# Altium schematic symbol library Schlib1.SchLib: 47 symbols
Pins are listed as number, name and electrical type; pins without a type are passive.

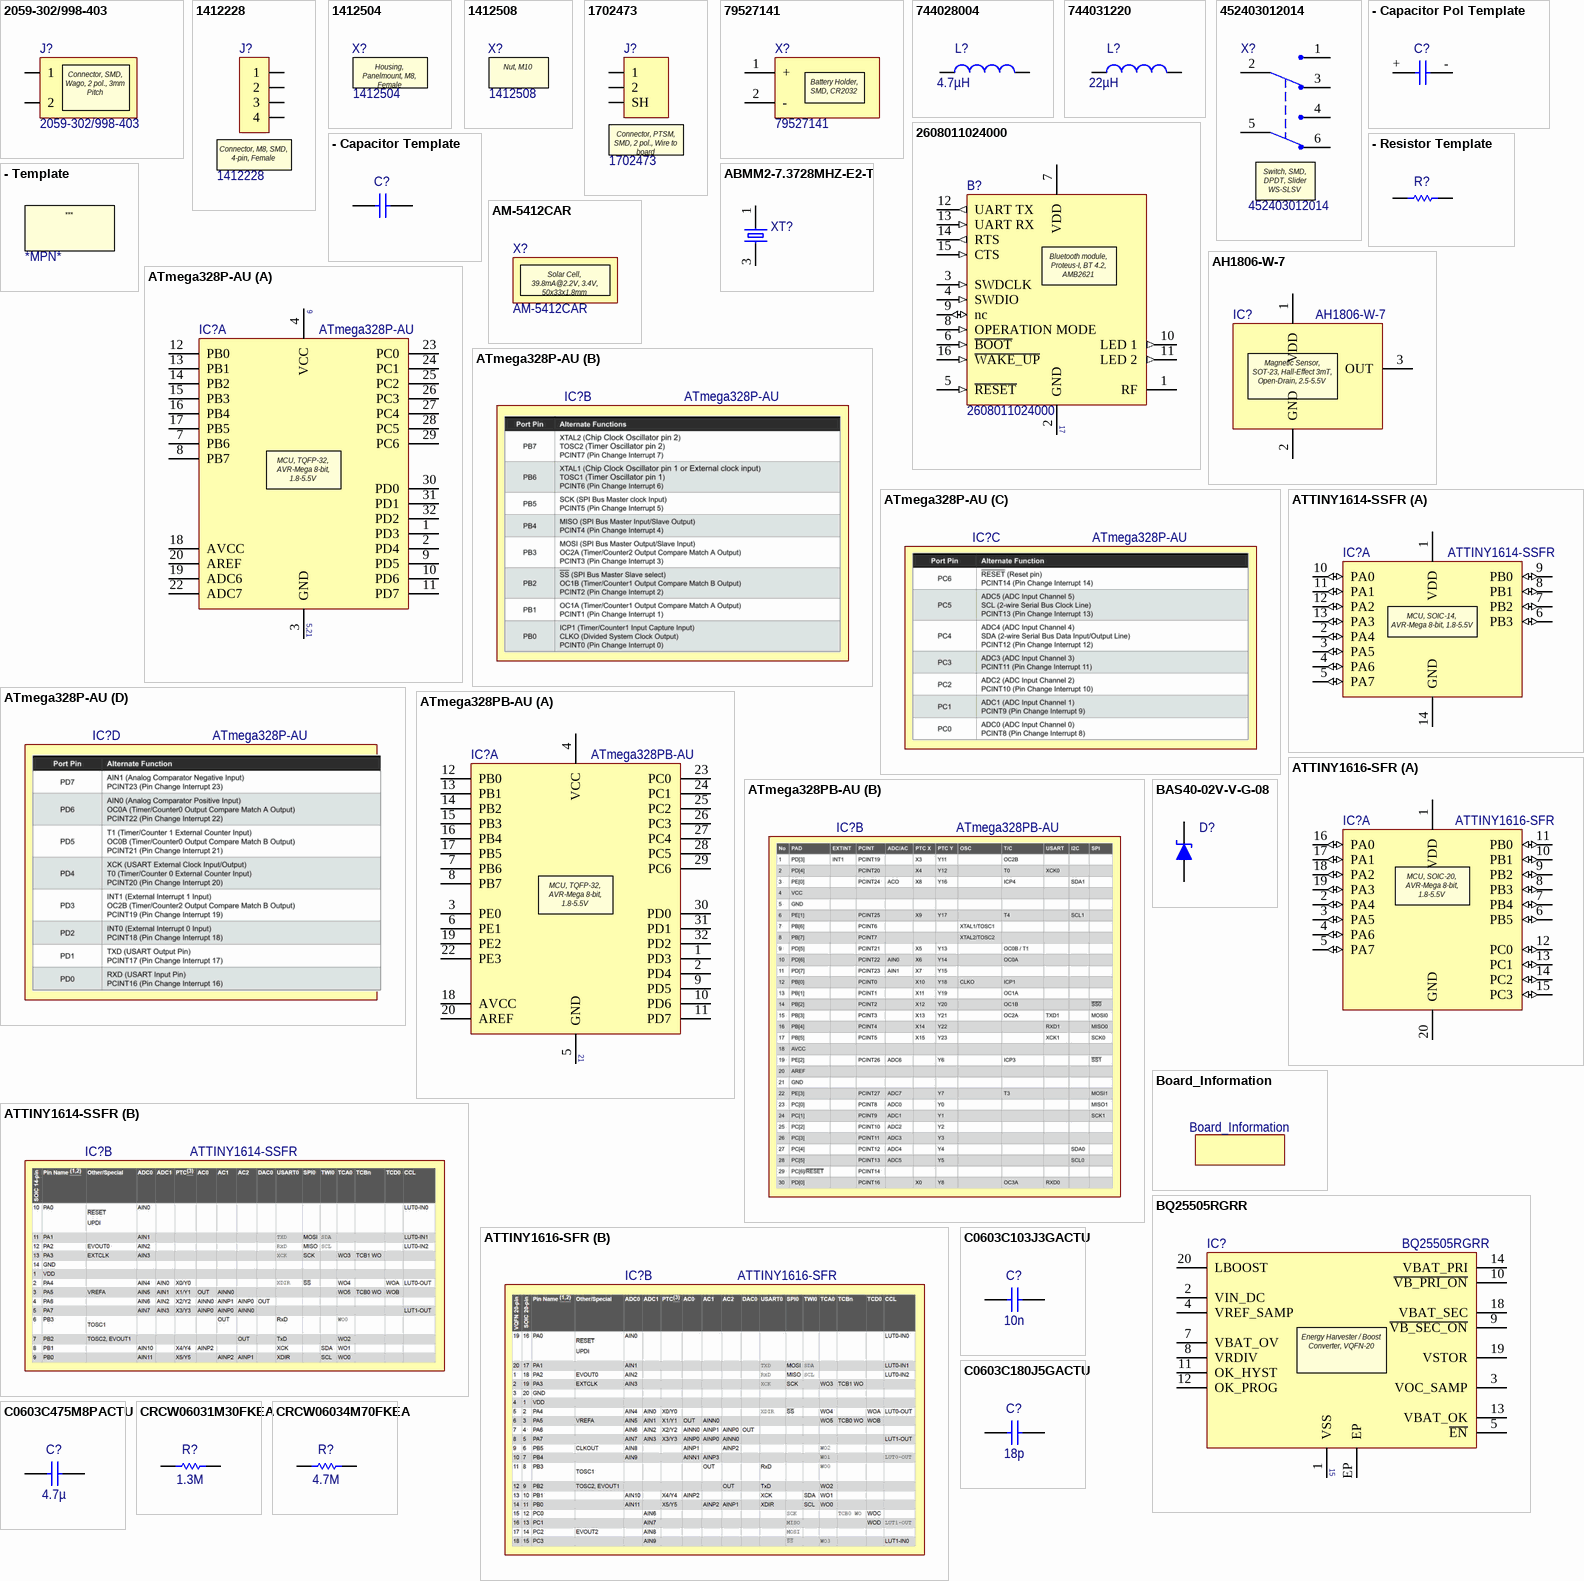
[diagram p0: symbols 2059-302/998-403 to CRCW06034M70FKEA]

## 2059-302/998-403
designator J?
Connector, SMD, Wago, 2 pol., 3mm Pitch; ComponentLink1URL: P:/Datenblatt_2059-302_998-403_.pdf; ComponentLink1Description: Datasheet; OC_FEPA: *; Supplier Part Number 1: -; Supplier 1: Digi-Key; Manufacturer: Wago; Supplier 2: Farnell; Supplier Part Number 2: 2494399; Supplier 3: Mouser; Supplier Part Number 3: -; Supplier 4: Conrad; Supplier Part Number 4: 1208172; MPN: 2059-302/998-403
footprint 2059-3x2
pins: 1, 2

## 1412228
designator J?
Connector, M8, SMD, 4-pin, Female; Manufacturer: Phoenix Contact; ComponentLink1URL: P:/1412228.pdf; ComponentLink1Description: Datasheet; OC_FEPA: *; ComponentLink2Description: Part Series Datasheet; ComponentLink2URL: P:/52003587_EN_US_PLUSCON_circular_M5_M8_M12_LoRes.pdf; Supplier 1: Digi-Key; Supplier Part Number 1: 1412228-ND; Supplier 2: Farnell; Supplier Part Number 2: -; Supplier 3: Mouser; Supplier Part Number 3: 651-1412228; MPN: 1412228
footprint 1412228
pins: 1, 2, 3, 4

## 1412504
designator X?
Housing, Panelmount, M8, Female; Manufacturer: Phoenix Contact; ComponentLink1URL: P:/1412504.pdf; ComponentLink1Description: Datasheet; OC_FEPA: 1030987; Supplier 1: Digi-Key; Supplier Part Number 1: 277-10310-ND; Supplier 2: Farnell; Supplier Part Number 2: -; Supplier 3: Mouser; Supplier Part Number 3: 651-1412504; MPN: 1412504
footprint 1412504

## 1412508
designator X?  (mechanical)
Nut, M10; Manufacturer: Phoenix Contact; ComponentLink1URL: P:/1412508.pdf; ComponentLink1Description: Datasheet; OC_FEPA: 1030988; Supplier 1: Digi-Key; Supplier Part Number 1: 277-10312-ND; Supplier 2: Farnell; Supplier Part Number 2: -; Supplier 3: Mouser; Supplier Part Number 3: 651-1412508; MPN: 1412508
footprint 1412508

## 1702473
designator J?
Connector, PTSM, SMD, 2 pol., Wire to board; Manufacturer: Phoenix Contact; ComponentLink1URL: P:/1702473.pdf; ComponentLink1Description: Datasheet; OC_FEPA: *; ComponentLink3Description: Drawing; ComponentLink3URL: P:/pxc_1702473_01_PTSM-0-5-2-2-5-H-SMD-R24_FAM.pdf; Supplier 1: Digi-Key; Supplier Part Number 1: 277-2337-1-ND; Supplier 2: Farnell; Supplier Part Number 2: 1793797; Supplier 3: Mouser; Supplier Part Number 3: 651-1702473; MPN: 1702473
footprint 1702473
pins: 1, 2, SH1 SH, SH2

## 79527141
designator X?
Battery Holder, SMD, CR2032; Manufacturer: Würth Elektronik; OC_FEPA: *; ComponentLink3Description: Drawing; ComponentLink3URL: P:/79527141.pdf; Supplier 1: Digi-Key; Supplier Part Number 1: 732-12325-1-ND; Supplier 2: Farnell; Supplier Part Number 2: -; Supplier 3: Mouser; Supplier Part Number 3: 710-79527141; Supplier 4: RSComponents; Supplier Part Number 4: 1842347; MPN: 79527141
footprint 79527141
pins: 1 +, 2 -

## 744028004
designator L?  value 4.7µH  (hidden comment: 744028004)
Ind, 4.7µH, 0.7A, 2.78x2.78x1.1mm; Manufacturer: Würth Elektronik; OC_FEPA: *; ComponentLink3Description: Drawing; ComponentLink3URL: P:/744028004.pdf; MPN: 744028004; Supplier 1: Digi-Key; Supplier Part Number 1: 732-1003-1-ND; Supplier 2: Farnell; Supplier Part Number 2: 1635821; Supplier 3: Mouser; Supplier Part Number 3: 710-744028004; Supplier 4: RSComponents; Supplier Part Number 4: 6690157
footprint WE-TPC_2811
pins: 1, 2

## 744031220
designator L?  value 22µH  (hidden comment: 744031220)
Ind, 22µH, 0.51A, 3.8x3.8x1.65mm; Manufacturer: Würth Elektronik; OC_FEPA: *; ComponentLink3Description: Drawing; ComponentLink3URL: P:/744031220.pdf; MPN: 744031220; Supplier 1: Digi-Key; Supplier Part Number 1: 732-1012-1-ND; Supplier 2: Farnell; Supplier Part Number 2: 1890602; Supplier 3: Mouser; Supplier Part Number 3: 710-744031220; Supplier 4: RSComponents; Supplier Part Number 4: 617-0903
footprint WE-TCP_3816
pins: 1, 2

## 452403012014
designator X?
Switch, SMD, DPDT, Slider WS-SLSV; Manufacturer: Würth Elektronik; OC_FEPA: *; ComponentLink3Description: Drawing; ComponentLink3URL: P:/452403012014.pdf; Supplier 1: Digi-Key; Supplier Part Number 1: 732-10145-1-ND; Supplier 2: Farnell; Supplier Part Number 2: -; Supplier 3: Mouser; Supplier Part Number 3: 710-452403012014; MPN: 452403012014
footprint 452403012014
pins: 1 NO1, 2 COM1, 3 NC1, 4 NO2, 5 COM2, 6 NC2

## 2608011024000
designator B?
Bluetooth module, Proteus-I, BT 4.2, AMB2621; Manufacturer: Würth Elektronik; ComponentLink4URL: P:/ProteusI_2608011x2400x.pdf; ComponentLink4Description: Manual; OC_FEPA: *; ComponentLink3Description: Drawing; ComponentLink3URL: P:/2608011024000.pdf; Supplier 1: Digi-Key; Supplier Part Number 1: 1917-1014-1-ND; Supplier 2: Farnell; Supplier Part Number 2: 2917636; MPN: 2608011024000
footprint AMB2621
pins: 1 RF, 2 GND, 3 SWDCLK (in), 4 SWDIO (in), 5 ~{RESET} (in), 6 ~{BOOT} (in), 7 VDD, 8 OPERATION MODE (in), 9 nc (io), 10 LED 1 (out), 11 LED 2 (out), 12 UART TX (out), 13 UART RX (in), 14 RTS (out), 15 CTS (in), 16 ~{WAKE_UP} (in), 17 GND
1 alternate drawing of the same symbol
text: Bluetooth module, Proteus-I, BT 4.2, AMB2621 /

## - Capacitor Pol Template
designator C?, comment MPN  (value not drawn)
Cap,; ComponentLink1Description: Datasheet; ComponentLink2Description: Part Series Datasheet; OC_FEPA: *; MPN: *; Manufacturer: *
pins: + 1, - 2

## - Capacitor Template
designator C?, comment MPN  (value not drawn)
Cap,; ComponentLink1Description: Datasheet; ComponentLink2Description: Part Series Datasheet; OC_FEPA: *; MPN: *; Manufacturer: *
pins: 1, 2

## - Resistor Template
designator R?, comment Res  (value not drawn)
Res,; OC_FEPA: *; ComponentLink2Description: Part Series Datasheet; ComponentLink1Description: Datasheet; MPN: *; Manufacturer: *; Supplier 1: Digi-Key; Supplier 2: Farnell; Supplier 3: Mouser; Supplier Part Number 1: -; Supplier Part Number 2: -; Supplier Part Number 3: -
pins: 1, 2

## - Template
designator X?  MPN: *MPN*  (hidden comment: - Template)
ComponentLink1URL: *; ComponentLink1Description: Datasheet; OC_FEPA: *; Supplier Part Number 1: -; Supplier 1: Digi-Key; Manufacturer: *; ComponentLink2Description: Part Series Datasheet; ComponentLink2URL: *; ComponentLink3Description: Drawing; ComponentLink3URL: *; Supplier 2: Farnell; Supplier Part Number 2: -
text: ***

## ABMM2-7.3728MHZ-E2-T
designator XT?  (value not drawn)
Crystal, SMD, 7.3728MHz, 18pF; Manufacturer: Abracon; ComponentLink1URL: P:/Abracon-ABMM2-7.3728MHZ-E2-T-datasheet.pdf; ComponentLink1Description: Datasheet; OC_FEPA: *; MPN: ABMM2-7.3728MHZ-E2-T; Supplier 1: Digi-Key; Supplier Part Number 1: 535-10157-1-ND; Supplier 2: Farnell; Supplier Part Number 2: 2467857; Supplier 3: Mouser; Supplier Part Number 3: 815-ABMM2-7.3-E2-T; Supplier 4: RSComponents; Supplier Part Number 4: 1712788
footprint Crystal_6x3.6mm
pins: 1, 3

## AH1806-W-7
designator IC?
Magnetic Sensor, SOT-23, Hall-Effect 3mT, Open-Drain, 2.5-5.5V; Manufacturer: Diodes Inc.; ComponentLink1URL: https://www.diodes.com/assets/Datasheets/AH1806.pdf; ComponentLink1Description: Datasheet; OC_FEPA: *; Supplier 1: Digi-Key; Supplier Part Number 1: AH1806-W-7DICT-ND; Supplier 2: Farnell; Supplier Part Number 2: -; Supplier 3: Mouser; Supplier Part Number 3: 621-AH1806-W-7; MPN: AH1806-W-7
footprint SOT-23
pins: 1 VDD, 2 GND, 3 OUT

## AM-5412CAR
designator X?
Solar Cell, 39.8mA@2.2V, 3.4V, 50x33x1.8mm; Manufacturer: Panasonic BSG; OC_FEPA: *; ComponentLink2Description: Part Series Datasheet; ComponentLink2URL: P:/Amorphous_Br.pdf; Supplier 1: Digi-Key; Supplier Part Number 1: 869-1007-ND; Supplier 2: Farnell; Supplier Part Number 2: -; Supplier 3: Mouser; Supplier Part Number 3: 658-AM-5412CAR; MPN: AM-5412CAR
footprint AM-5412CAR

## ATmega328P-AU
designator IC?
MCU, TQFP-32, AVR-Mega 8-bit, 1.8-5.5V; Manufacturer: Microchip; ComponentLink1URL: P:/ATmega48A-PA-88A-PA-168A-PA-328-P-DS-DS40002061A.pdf; ComponentLink1Description: Datasheet; OC_FEPA: *; Supplier 1: Digi-Key; Supplier Part Number 1: ATMEGA328P-AU-ND; Supplier 2: Farnell; Supplier Part Number 2: 1715486; Supplier 3: Mouser; Supplier Part Number 3: 556-ATMEGA328P-AU; Supplier 4: RSComponents; Supplier Part Number 4: 1310271; MPN: ATmega328P-AU
footprint TQFP-32
part A pins: 1 PD3, 2 PD4, 3 GND, 4 VCC, 5 GND, 6 VCC, 7 PB6, 8 PB7, 9 PD5, 10 PD6, 11 PD7, 12 PB0, 13 PB1, 14 PB2, 15 PB3, 16 PB4, 17 PB5, 18 AVCC, 19 ADC6, 20 AREF, 21 GND, 22 ADC7, 23 PC0, 24 PC1, 25 PC2, 26 PC3, 27 PC4, 28 PC5, 29 PC6, 30 PD0, 31 PD1, 32 PD2
part A text: 5,21

## ATmega328PB-AU
designator IC?
MCU, TQFP-32, AVR-Mega 8-bit, 1.8-5.5V; Manufacturer: Microchip; ComponentLink1URL: P:/40001906C.pdf; ComponentLink1Description: Datasheet; OC_FEPA: *; Supplier 1: Digi-Key; Supplier Part Number 1: ATMEGA328PB-AU-ND; Supplier 2: Farnell; Supplier Part Number 2: 2523203; Supplier 3: Mouser; Supplier Part Number 3: 556-ATMEGA328PB-AU; Supplier 4: RSComponents; Supplier Part Number 4: 1468928; MPN: ATmega328PB-AU
footprint TQFP-32
part A pins: 1 PD3, 2 PD4, 3 PE0, 4 VCC, 5 GND, 6 PE1, 7 PB6, 8 PB7, 9 PD5, 10 PD6, 11 PD7, 12 PB0, 13 PB1, 14 PB2, 15 PB3, 16 PB4, 17 PB5, 18 AVCC, 19 PE2, 20 AREF, 21 GND, 22 PE3, 23 PC0, 24 PC1, 25 PC2, 26 PC3, 27 PC4, 28 PC5, 29 PC6, 30 PD0, 31 PD1, 32 PD2

## ATTINY1614-SSFR
designator IC?
MCU, SOIC-14, AVR-Mega 8-bit, 1.8-5.5V; Manufacturer: Microchip; ComponentLink1URL: P:/ATtiny1614-data-sheet-40001995A.pdf; ComponentLink1Description: Datasheet; OC_FEPA: *; Supplier 1: Digi-Key; Supplier Part Number 1: ATTINY1614-SSFRCT-ND; Supplier 2: Farnell; Supplier Part Number 2: 2920870; Supplier 3: Mouser; Supplier Part Number 3: 556-ATTINY1614SSFR; MPN: ATTINY1614-SSFR
part A pins: 1 VDD, 2 PA4 (io), 3 PA5 (io), 4 PA6 (io), 5 PA7 (io), 6 PB3 (io), 7 PB2 (io), 8 PB1 (io), 9 PB0 (io), 10 PA0 (io), 11 PA1 (io), 12 PA2 (io), 13 PA3 (io), 14 GND

## ATTINY1616-SFR
designator IC?
MCU, SOIC-20, AVR-Mega 8-bit, 1.8-5.5V; Manufacturer: Microchip; ComponentLink1URL: P:/ATtiny3216_ATtiny1616-data-sheet-40001997B.pdf; ComponentLink1Description: Datasheet; OC_FEPA: *; Supplier 1: Digi-Key; Supplier Part Number 1: ATTINY1616-SFRCT-ND; Supplier 2: Farnell; Supplier Part Number 2: 2920834; Supplier 3: Mouser; Supplier Part Number 3: 556-ATTINY1616SFR; Supplier 4: RSComponents; Supplier Part Number 4: 1468887; MPN: ATTINY1616-SFR
footprint WSOIC-20
part A pins: 1 VDD, 2 PA4 (io), 3 PA5 (io), 4 PA6 (io), 5 PA7 (io), 6 PB5 (io), 7 PB4 (io), 8 PB3 (io), 9 PB2 (io), 10 PB1 (io), 11 PB0 (io), 12 PC0 (io), 13 PC1 (io), 14 PC2 (io), 15 PC3 (io), 16 PA0 (io), 17 PA1 (io), 18 PA2 (io), 19 PA3 (io), 20 GND

## BAS40-02V-V-G-08
designator D?  (value not drawn)
Diode, Schottky, SOD-523; Manufacturer: Vishay; ComponentLink1URL: P:/bas4002v.pdf; ComponentLink1Description: Datasheet; OC_FEPA: *; MPN: BAS40-02V-V-G-08; Supplier 1: Digi-Key; Supplier Part Number 1: BAS40-02V-V-G-08GICT-ND; Supplier 2: Farnell; Supplier Part Number 2: 2689970; Supplier 3: Mouser; Supplier Part Number 3: 78-BAS40-02V-V-G-08
footprint SOD-523
pins: A, K

## Board_Information
designator Board_Information  (value not drawn)  (no BOM)
Board Information
footprint Board_Information

## BQ25505RGRR
designator IC?
Energy Harvester / Boost Converter, VQFN-20; Manufacturer: Texas Instruments; ComponentLink1URL: P:/bq25505.pdf; ComponentLink1Description: Datasheet; OC_FEPA: *; Supplier 1: Digi-Key; Supplier Part Number 1: 296-37078-1-ND; Supplier 2: Farnell; Supplier Part Number 2: -; Supplier 3: Mouser; Supplier Part Number 3: 595-BQ25505RGRR; MPN: BQ25505RGRR
footprint VQFN-20-EP_3.5x3.5 (VQFN, 20 pins + exposed pad, 3.5mm x 3.5mm body, 0.5mm pitch)
pins: 1 VSS, 2 VIN_DC, 3 VOC_SAMP, 4 VREF_SAMP, 5 ~{EN}, 7 VBAT_OV, 8 VRDIV, 9 ~{VB_SEC_ON}, 10 ~{VB_PRI_ON}, 11 OK_HYST, 12 OK_PROG, 13 VBAT_OK, 14 VBAT_PRI, 15 VSS, 18 VBAT_SEC, 19 VSTOR, 20 LBOOST, EP

## C0603C103J3GACTU
designator C?  value 10n  (hidden comment: C0603C103J3GACTU)
Cap, 10n, 0603, C0G, 25V; Manufacturer: Kemet; Rated Voltage: 25V; Dielectric: C0G; ComponentLink2URL: P:/KEM_C1003_C0G_SMD.pdf; ComponentLink2Description: Part Series Datasheet; OC_FEPA: *; MPN: C0603C103J3GACTU; Supplier 1: Digi-Key; Supplier Part Number 1: 399-7838-1-ND; Supplier 2: Farnell; Supplier Part Number 2: 1457729; Supplier 3: Mouser; Supplier Part Number 3: 80-C0603C103J3G
footprint C0603
pins: 1, 2

## C0603C180J5GACTU
designator C?  value 18p  (hidden comment: C0603C180J5GACTU)
Cap, 18p, 0603, C0G, 50V; Manufacturer: Kemet; Rated Voltage: 50V; Dielectric: C0G; ComponentLink2URL: P:/KEM_C1003_C0G_SMD.pdf; ComponentLink2Description: Part Series Datasheet; OC_FEPA: *; MPN: C0603C180J5GACTU; Supplier 1: Digi-Key; Supplier Part Number 1: 399-1052-1-ND; Supplier 2: Farnell; Supplier Part Number 2: 1414620; Supplier 3: Mouser; Supplier Part Number 3: 80-C0603C180J5G
footprint C0603
pins: 1, 2

## C0603C475M8PACTU
designator C?  value 4.7µ  (hidden comment: C0603C475M8PACTU)
Cap, 4.7µ, 0603, X5R, 10V; Manufacturer: Kemet; Rated Voltage: 10V; Dielectric: X5R; ComponentLink2URL: P:/KEM_C1006_X5R_SMD.pdf; ComponentLink2Description: Part Series Datasheet; OC_FEPA: *; MPN: C0603C475M8PACTU; Supplier 1: Digi-Key; Supplier Part Number 1: 399-9100-1-ND; Supplier 2: Farnell; Supplier Part Number 2: 2112834; Supplier 3: Mouser; Supplier Part Number 3: 80-C0603C475M8P
footprint C0603
pins: 1, 2

## CRCW06031M30FKEA
designator R?  value 1.3M  (hidden comment: CRCW06031M30FKEA)
Res, 1.3M, 0603, 1%, 75V, 100mW; Manufacturer: Vishay Dale; Temperature Coefficient: 100ppm; Rated Voltage: 75V; Tolerance: 1%; Type: Thick Film; Rated Power: 100mW; OC_FEPA: *; ComponentLink2URL: P:/dcrcwe3.pdf; ComponentLink2Description: Part Series Datasheet; MPN: CRCW06031M30FKEA; Supplier 1: Digi-Key; Supplier Part Number 1: 541-1.30MHCT-ND; Supplier 2: Farnell; Supplier Part Number 2: 2138620; Supplier 3: Mouser; Supplier Part Number 3: 71-CRCW06031M30FKEA
footprint R0603
pins: 1, 2

## CRCW06034M70FKEA
designator R?  value 4.7M  (hidden comment: CRCW06034M70FKEA)
Res, 4.7M, 0603, 1%, 75V, 100mW; Manufacturer: Vishay Dale; Temperature Coefficient: 100ppm; Rated Voltage: 75V; Tolerance: 1%; Type: Thick Film; Rated Power: 100mW; OC_FEPA: *; ComponentLink2URL: P:/dcrcwe3.pdf; ComponentLink2Description: Part Series Datasheet; MPN: CRCW06034M70FKEA; Supplier 1: Digi-Key; Supplier Part Number 1: 541-4.70MHCT-ND; Supplier 2: Farnell; Supplier Part Number 2: 2138688; Supplier 3: Mouser; Supplier Part Number 3: 71-CRCW0603-4.7M-E3
footprint R0603
pins: 1, 2

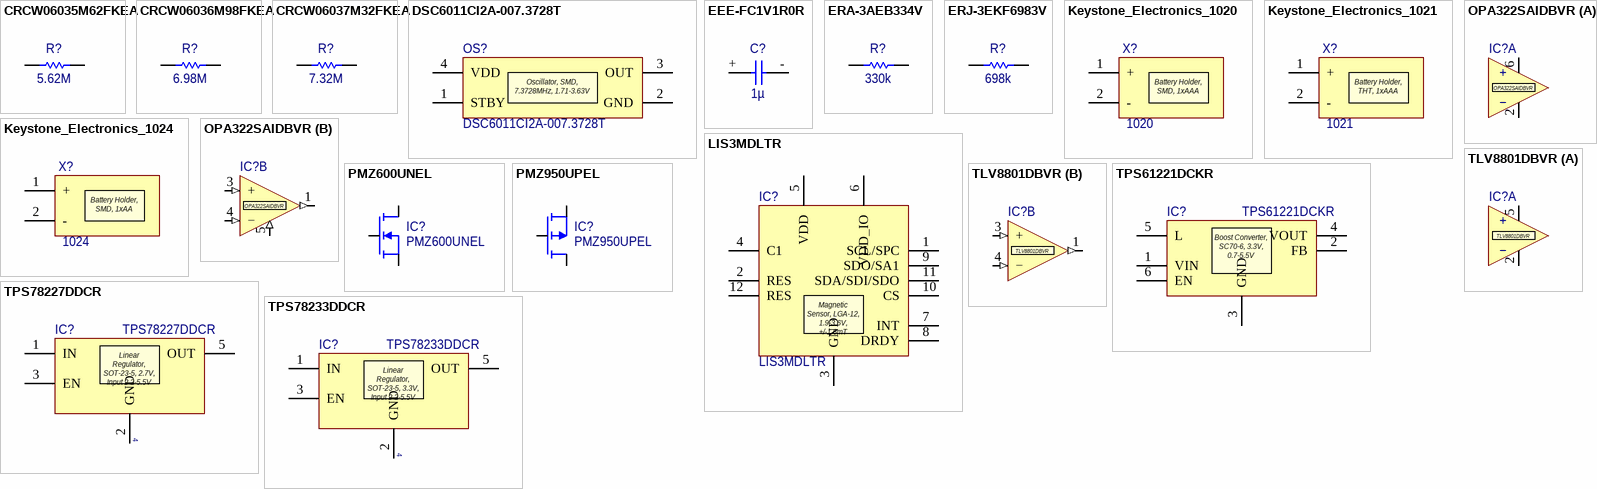
[diagram p1: symbols CRCW06035M62FKEA to TPS78233DDCR]

## CRCW06035M62FKEA
designator R?  value 5.62M  (hidden comment: CRCW06035M62FKEA)
Res, 5.62M, 0603, 1%, 75V, 100mW; Manufacturer: Vishay Dale; Temperature Coefficient: 100ppm; Rated Voltage: 75V; Tolerance: 1%; Type: Thick Film; Rated Power: 100mW; OC_FEPA: *; ComponentLink2URL: P:/dcrcwe3.pdf; ComponentLink2Description: Part Series Datasheet; MPN: CRCW06035M62FKEA; Supplier 1: Digi-Key; Supplier Part Number 1: 541-5.62MHCT-ND; Supplier 2: Farnell; Supplier Part Number 2: 2138698; Supplier 3: Mouser; Supplier Part Number 3: 71-CRCW06035M62FKEA
footprint R0603
pins: 1, 2

## CRCW06036M98FKEA
designator R?  value 6.98M  (hidden comment: CRCW06036M98FKEA)
Res, 6.98M, 0603, 1%, 75V, 100mW; Manufacturer: Vishay Dale; Temperature Coefficient: 100ppm; Rated Voltage: 75V; Tolerance: 1%; Type: Thick Film; Rated Power: 100mW; OC_FEPA: *; ComponentLink2URL: P:/dcrcwe3.pdf; ComponentLink2Description: Part Series Datasheet; MPN: CRCW06036M98FKEA; Supplier 1: Digi-Key; Supplier Part Number 1: 541-6.98MHCT-ND; Supplier 2: Farnell; Supplier Part Number 2: 2138710; Supplier 3: Mouser; Supplier Part Number 3: 71-CRCW06036M98FKEA
footprint R0603
pins: 1, 2

## CRCW06037M32FKEA
designator R?  value 7.32M  (hidden comment: CRCW06037M32FKEA)
Res, 7.32M, 0603, 1%, 75V, 100mW; Manufacturer: Vishay Dale; Temperature Coefficient: 100ppm; Rated Voltage: 75V; Tolerance: 1%; Type: Thick Film; Rated Power: 100mW; OC_FEPA: *; ComponentLink2URL: P:/dcrcwe3.pdf; ComponentLink2Description: Part Series Datasheet; MPN: CRCW06037M32FKEA; Supplier 1: Digi-Key; Supplier Part Number 1: 541-7.32MHCT-ND; Supplier 2: Farnell; Supplier Part Number 2: 2138713; Supplier 3: Mouser; Supplier Part Number 3: 71-CRCW06037M32FKEA
footprint R0603
pins: 1, 2

## DSC6011CI2A-007.3728T
designator OS?
Oscillator, SMD,  7.3728MHz, 1.71-3.63V; Manufacturer: Microchip; Additional Description: Low Power consumption 1.3mA; ComponentLink1URL: P:/DSC60XX-Ultra-Small-Ultra-Low-Power-MEMS-Oscillator-DS20005625C.pdf; ComponentLink1Description: Datasheet; OC_FEPA: *; Supplier 1: Digi-Key; Supplier Part Number 1: DSC6011CI2A-007.3728TCT-ND; MPN: DSC6011CI2A-007.3728T
footprint DSC60xxCxxx
pins: 1 STBY, 2 GND, 3 OUT, 4 VDD

## EEE-FC1V1R0R
designator C?  value 1µ  (hidden comment: EEE-FC1V1R0R)
Cap, 1µ, 4x5.4mm, Aluminum Electrolyte, 35V; Manufacturer: Panasonic; Rated Voltage: 35V; Dielectric: Aluminum Electrolyte; Temperature: 105°C; ComponentLink2URL: P:/ABA0000C1172.pdf; ComponentLink2Description: Part Series Datasheet; OC_FEPA: *; MPN: EEE-FC1V1R0R; Supplier 1: Digi-Key; Supplier Part Number 1: PCE4024CT-ND; Supplier 2: Farnell; Supplier Part Number 2: 2357339; Supplier 3: Mouser; Supplier Part Number 3: 667-EEE-FC1V1R0R
footprint ELCAP_4x5.4mm
pins: + 1, - 2

## ERA-3AEB334V
designator R?  value 330k  (hidden comment: ERA-3AEB334V)
Res, 330k, 0603, 0.1%, 25ppm, 75V, 100mW; Manufacturer: Panasonic Electronic Components; Rated Voltage: 75V; Tolerance: 0.1%; Type: Thin Film; Rated Power: 100mW; OC_FEPA: *; ComponentLink2URL: P:/AOA0000C307.pdf; ComponentLink2Description: Part Series Datasheet; Temperature Coefficient: 25ppm; MPN: ERA-3AEB334V; Supplier 1: Digi-Key; Supplier Part Number 1: P330KDBCT-ND; Supplier 2: Farnell; Supplier Part Number 2: 1577639; Supplier 3: Mouser; Supplier Part Number 3: 667-ERA-3AEB334V
footprint R0603
pins: 1, 2

## ERJ-3EKF6983V
designator R?  value 698k  (hidden comment: ERJ-3EKF6983V)
Res, 698k, 0603, 1%, 75V, 100mW; Manufacturer: Panasonic Electronic Components; Temperature Coefficient: 100ppm; Rated Voltage: 75V; Tolerance: 1%; Type: Thick Film; Rated Power: 100mW; OC_FEPA: *; ComponentLink2URL: P:/AOA0000C304.pdf; ComponentLink2Description: Part Series Datasheet; MPN: ERJ-3EKF6983V; Supplier 1: Digi-Key; Supplier Part Number 1: P698KHCT-ND; Supplier 2: Farnell; Supplier Part Number 2: 2303307; Supplier 3: Mouser; Supplier Part Number 3: 667-ERJ-3EKF6983V
footprint R0603
pins: 1, 2

## Keystone_Electronics_1020
designator X?  MPN: 1020  (hidden comment: Keystone_Electronics_1020)
Battery Holder, SMD, 1xAAA; Manufacturer: Keystone Electronics; OC_FEPA: *; ComponentLink2Description: Part Series Datasheet; ComponentLink2URL: P:/M65p23.pdf; ComponentLink3Description: Drawing; ComponentLink3URL: P:/1020.PDF; Supplier 1: Digi-Key; Supplier Part Number 1: 36-1020-ND; Supplier 2: Farnell; Supplier Part Number 2: 1888633; Supplier 3: Mouser; Supplier Part Number 3: 534-1020; Supplier 4: Conrad; Supplier Part Number 4: 1555533
footprint Keystone_Electronics_1020
pins: 1 +, 2 -

## Keystone_Electronics_1021
designator X?  MPN: 1021  (hidden comment: Keystone_Electronics_1021)
Battery Holder, THT, 1xAAA; Manufacturer: Keystone Electronics; OC_FEPA: *; ComponentLink2Description: Part Series Datasheet; ComponentLink2URL: P:/M65p22.pdf; ComponentLink3Description: Drawing; ComponentLink3URL: P:/1021.PDF; Supplier 1: Digi-Key; Supplier Part Number 1: 36-1021-ND; Supplier 2: Farnell; Supplier Part Number 2: -; Supplier 3: Mouser; Supplier Part Number 3: 534-1021; Supplier 4: Conrad; Supplier Part Number 4: 1555480
footprint Keystone_Electronics_1021
pins: 1 +, 2 -

## Keystone_Electronics_1024
designator X?  MPN: 1024  (hidden comment: Keystone_Electronics_1024)
Battery Holder, SMD, 1xAA; Manufacturer: Keystone Electronics; OC_FEPA: *; ComponentLink2Description: Part Series Datasheet; ComponentLink2URL: P:/M65p23.pdf; ComponentLink3Description: Drawing; ComponentLink3URL: P:/1024.PDF; Supplier 1: Digi-Key; Supplier Part Number 1: 36-1024-ND; Supplier 2: Farnell; Supplier Part Number 2: 1888398; Supplier 3: Mouser; Supplier Part Number 3: 534-1024; Supplier 4: Conrad; Supplier Part Number 4: 1555514
footprint Keystone_Electronics_1024
pins: 1 +, 2 -

## LIS3MDLTR
designator IC?
Magnetic Sensor, LGA-12, 1.9-3.6V, +/-1.6mT; Manufacturer: ST Microelectronics; ComponentLink1URL: P:/en.DM00075867.pdf; ComponentLink1Description: Datasheet; OC_FEPA: *; Supplier 1: Digi-Key; Supplier Part Number 1: 497-13892-1-ND; Supplier 2: Farnell; Supplier Part Number 2: 2433083; Supplier 3: Mouser; Supplier Part Number 3: 511-LIS3MDLTR; Supplier 4: RSComponents; Supplier Part Number 4: 9172725; MPN: LIS3MDLTR
footprint LGA-12
pins: 1 SCL/SPC, 2 RES, 3 GND, 4 C1, 5 VDD, 6 VDD_IO, 7 INT, 8 DRDY, 9 SDO/SA1, 10 CS, 11 SDA/SDI/SDO, 12 RES

## OPA322SAIDBVR
designator IC?  (value not drawn)
Op-Amp, SOT-32, 1.7-5.5V, Rail-to-rail, Nanopower; Manufacturer: Texas Instruments; ComponentLink1URL: P:/opa322.pdf; ComponentLink1Description: Datasheet; OC_FEPA: *; MPN: OPA322SAIDBVR; Supplier Part Number 2: -; Supplier 2: Farnell; Supplier 1: Digi-Key; Supplier Part Number 1: 296-40465-1-ND; Supplier 3: Mouser; Supplier Part Number 3: 595-OPA322SAIDBVR
footprint SOT-23-6
part A pins: 2 -, 6 +
part B pins: 1 Out (out), 3 + (in), 4 − (in), 5 ~{SHDN} (in)

## PMZ600UNEL
designator IC?
MOSFET, SOT-883, n-channel, 20V, 0.6A, low leakage current; Manufacturer: Nexperia; ComponentLink1URL: P:/PMZ600UNEL.pdf; ComponentLink1Description: Datasheet; OC_FEPA: *; Supplier 1: Digi-Key; Supplier Part Number 1: 1727-2598-1-ND; Supplier 2: Farnell; Supplier Part Number 2: 2673079; Supplier 3: Mouser; Supplier Part Number 3: 771-PMZ600UNELYL; MPN: PMZ600UNEL
footprint SOT-883
pins: 1 G, 2 S, 3 D

## PMZ950UPEL
designator IC?
MOSFET, SOT-883, p-channel, -20V, -0.5A, low leakage current; Manufacturer: Nexperia; ComponentLink1URL: P:/PMZ950UPEL.pdf; ComponentLink1Description: Datasheet; OC_FEPA: *; Supplier 1: Digi-Key; Supplier Part Number 1: 1727-2599-1-ND; Supplier 2: Farnell; Supplier Part Number 2: 2673080; Supplier 3: Mouser; Supplier Part Number 3: 771-PMZ950UPELYL; MPN: PMZ950UPEL
footprint SOT-883
pins: 1 G, 2 S, 3 D

## TLV8801DBVR
designator IC?  (value not drawn)
Op-Amp, SOT-32, 1.7-5.5V, Rail-to-rail, Nanopower; Manufacturer: Texas Instruments; ComponentLink1URL: P:/tlv8801.pdf; ComponentLink1Description: Datasheet; OC_FEPA: *; Supplier 1: Digi-Key; Supplier Part Number 1: 296-47361-1-ND; Supplier 2: Farnell; Supplier Part Number 2: -; Supplier 3: Mouser; Supplier Part Number 3: 595-TLV8801DBVR; MPN: TLV8801DBVR
footprint SOT-23-5
part A pins: 2 -, 5 +
part B pins: 1 Out (out), 3 + (in), 4 − (in)

## TPS61221DCKR
designator IC?
Boost Converter, SC70-6, 3.3V, 0.7-5.5V; Manufacturer: Texas Instruments; ComponentLink1URL: P:/tps61221.pdf; ComponentLink1Description: Datasheet; OC_FEPA: *; MPN: TPS61221DCKR
footprint SC70-6
pins: 1 VIN, 2 FB, 3 GND, 4 VOUT, 5 L, 6 EN

## TPS78227DDCR
designator IC?
Linear Regulator, SOT-23-5, 2.7V, Input 2.2-5.5V; Manufacturer: Texas Instruments; Additional Description: 130mV Dropout, Ultra low quiescent current; ComponentLink1URL: P:/tps782.pdf; ComponentLink1Description: Datasheet; OC_FEPA: *; Supplier 1: Digi-Key; Supplier Part Number 1: 296-23825-1-ND; Supplier 2: Farnell; Supplier Part Number 2: 2352270; Supplier 3: Mouser; Supplier Part Number 3: 595-TPS78227DDCR; Supplier 4: RSComponents; Supplier Part Number 4: 8175436; MPN: TPS78227DDCR
footprint SOT-23-5
pins: 1 IN, 2 GND, 3 EN, 4 GND, 5 OUT

## TPS78233DDCR
designator IC?
Linear Regulator, SOT-23-5, 3.3V, Input 2.2-5.5V; Manufacturer: Texas Instruments; Additional Description: 130mV Dropout, Ultra low quiescent current; ComponentLink1URL: P:/tps782.pdf; ComponentLink1Description: Datasheet; OC_FEPA: *; Supplier 1: Digi-Key; Supplier Part Number 1: 296-24059-1-ND; Supplier 2: Farnell; Supplier Part Number 2: 1755652; Supplier 3: Mouser; Supplier Part Number 3: 595-TPS78233DDCR; MPN: TPS78233DDCR
footprint SOT-23-5
pins: 1 IN, 2 GND, 3 EN, 4 GND, 5 OUT